# Altium footprint library DO-214AB.PcbLib: 1 footprints
Each footprint in its own frame and in the unit in brackets; x right, y up, seen from the top. Pads: shape width x height; smd on the part's side, far side on the other; paste and mask are expansions set on the pad; w line width, h text height; cw(c..) or ccw(c..) is an arc to the next point about the centre after c.
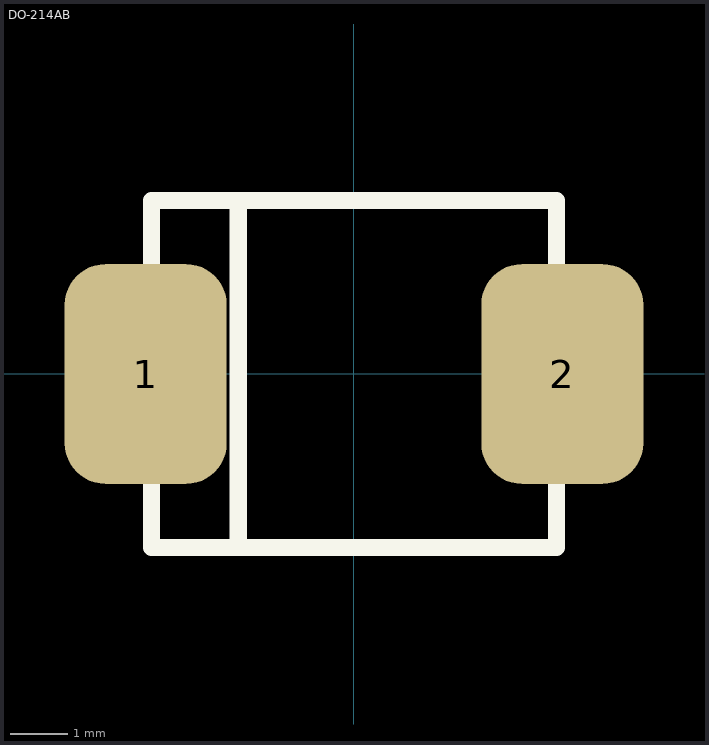
[diagram p0: the footprint, top view; thin cyan lines are the x and y axes]

## DO-214AB [mm]
pads (2):
  rrect50% 2.8x3.8 smd: 1(-3.6,0) 2(3.6,0)
Top Overlay:
  lines w0.3: -3.5,-1.5 -4,-1.5 -4,1.5 -3.5,1.5 ; -2,-3 -2,3 ; 3.5,-1.5 4,-1.5 4,1.5 3.5,1.5 ; -3.5,-3 -3.5,3 3.5,3 3.5,-3 -3.5,-3
3D body: height 1, standoff 0, extent 3.5,-1.5 4,1.5
3D body: height 1, standoff 0, extent -4,-1.5 -3.5,1.5
3D body: height 2.7, standoff 0, extent -3.5,-3 3.5,3